# EAGLE library part PIC16F1828-E (library icv1)
8-bit Microcontrollers - MCU 7 KB Flash 256b RAM 32 MHz Int. Osc Source: Datasheet <http://ww1.microchip.com/downloads/en/DeviceDoc/40001419F.pdf>
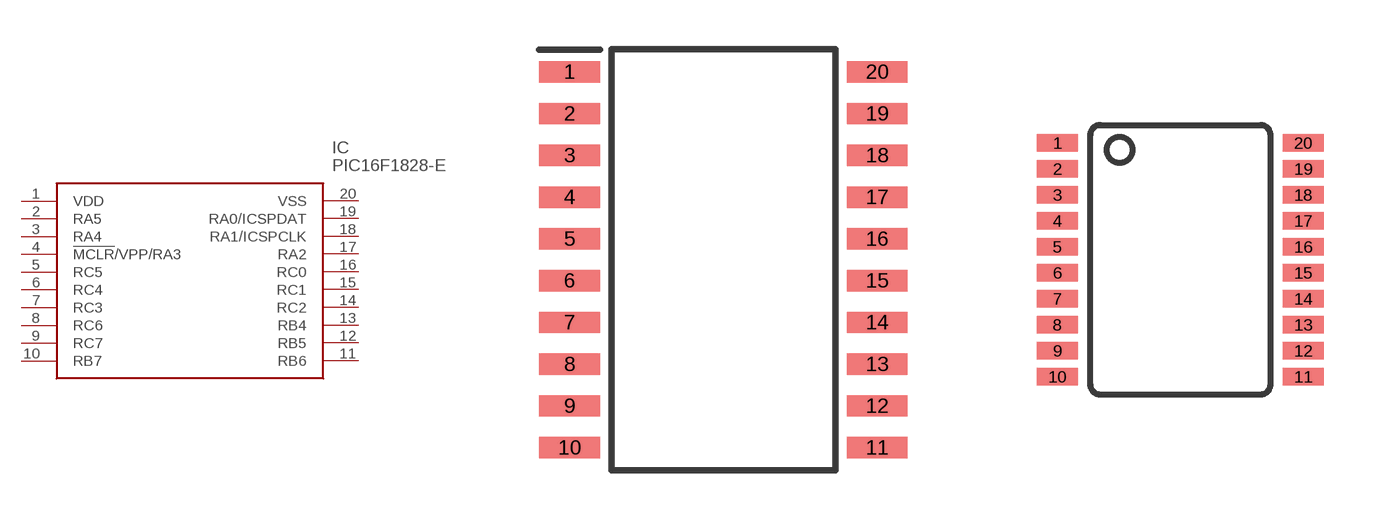
[diagram p3: symbol with the pads of SOIC127P1030X265-20N; footprints SOIC127P1030X265-20N, SOP65P780X200-20N]

Designator prefix IC

## PIC16F1828-E (ALLIED_NUMBER: 70047825; ALLIED_PRICE-STOCK: http://www.alliedelec.com/microchip-technology-inc-pic16f1828-e-so/70047825/; DESCRIPTION: 8-bit Microcontrollers - MCU 7 KB Flash 256b RAM 32 MHz Int. Osc; HEIGHT: 2.65mm; MANUFACTURER_NAME: Microchip; MANUFACTURER_PART_NUMBER: PIC16F1828-E/SO; MOUSER_PART_NUMBER: 579-PIC16F1828ESO; MOUSER_PRICE-STOCK: https://www.mouser.com/Search/Refine.aspx?Keyword=579-PIC16F1828ESO; RS_PART_NUMBER: 8173917; RS_PRICE-STOCK: http://uk.rs-online.com/web/p/products/8173917)  [SOIC127P1030X265-20N]
1  VDD  pwr
2  RA5
3  RA4
4  !MCLR!/VPP/RA3
5  RC5
6  RC4
7  RC3
8  RC6
9  RC7
10  RB7
11  RB6
12  RB5
13  RB4
14  RC2
15  RC1
16  RC0
17  RA2
18  RA1/ICSPCLK  in
19  RA0/ICSPDAT  in
20  VSS  pwr

## PIC16F1828-ETSSOP20  [SOP65P780X200-20N]
Pads as for SOIC127P1030X265-20N

## Footprint SOIC127P1030X265-20N (pad centres in mm)
20-Lead Plastic Small Outline (SO) - Wide, 7.50 mm Body [SOIC]
smd 1.85 x 0.65: 1 -4.675,5.715; 2 -4.675,4.445; 3 -4.675,3.175; 4 -4.675,1.905; 5 -4.675,0.635; 6 -4.675,-0.635; 7 -4.675,-1.905; 8 -4.675,-3.175; 9 -4.675,-4.445; 10 -4.675,-5.715; 11 4.675,-5.715; 12 4.675,-4.445; 13 4.675,-3.175; 14 4.675,-1.905; 15 4.675,-0.635; 16 4.675,0.635; 17 4.675,1.905; 18 4.675,3.175; 19 4.675,4.445; 20 4.675,5.715

## Footprint SOP65P780X200-20N (pad centres in mm)
20-Lead Plastic Shrink Small Outline (SS) - 5.30 mm Body [SSOP]
smd 1.016 x 0.432: 1 -3.074,2.925; 2 -3.074,2.275; 3 -3.074,1.625; 4 -3.074,0.975; 5 -3.074,0.325; 6 -3.074,-0.325; 7 -3.074,-0.975; 8 -3.074,-1.625; 9 -3.074,-2.275; 10 -3.074,-2.925; 11 3.074,-2.925; 12 3.074,-2.275; 13 3.074,-1.625; 14 3.074,-0.975; 15 3.074,-0.325; 16 3.074,0.325; 17 3.074,0.975; 18 3.074,1.625; 19 3.074,2.275; 20 3.074,2.925